# Altium schematic symbol library Library.SchLib: 691 symbols (part 11 of 11)
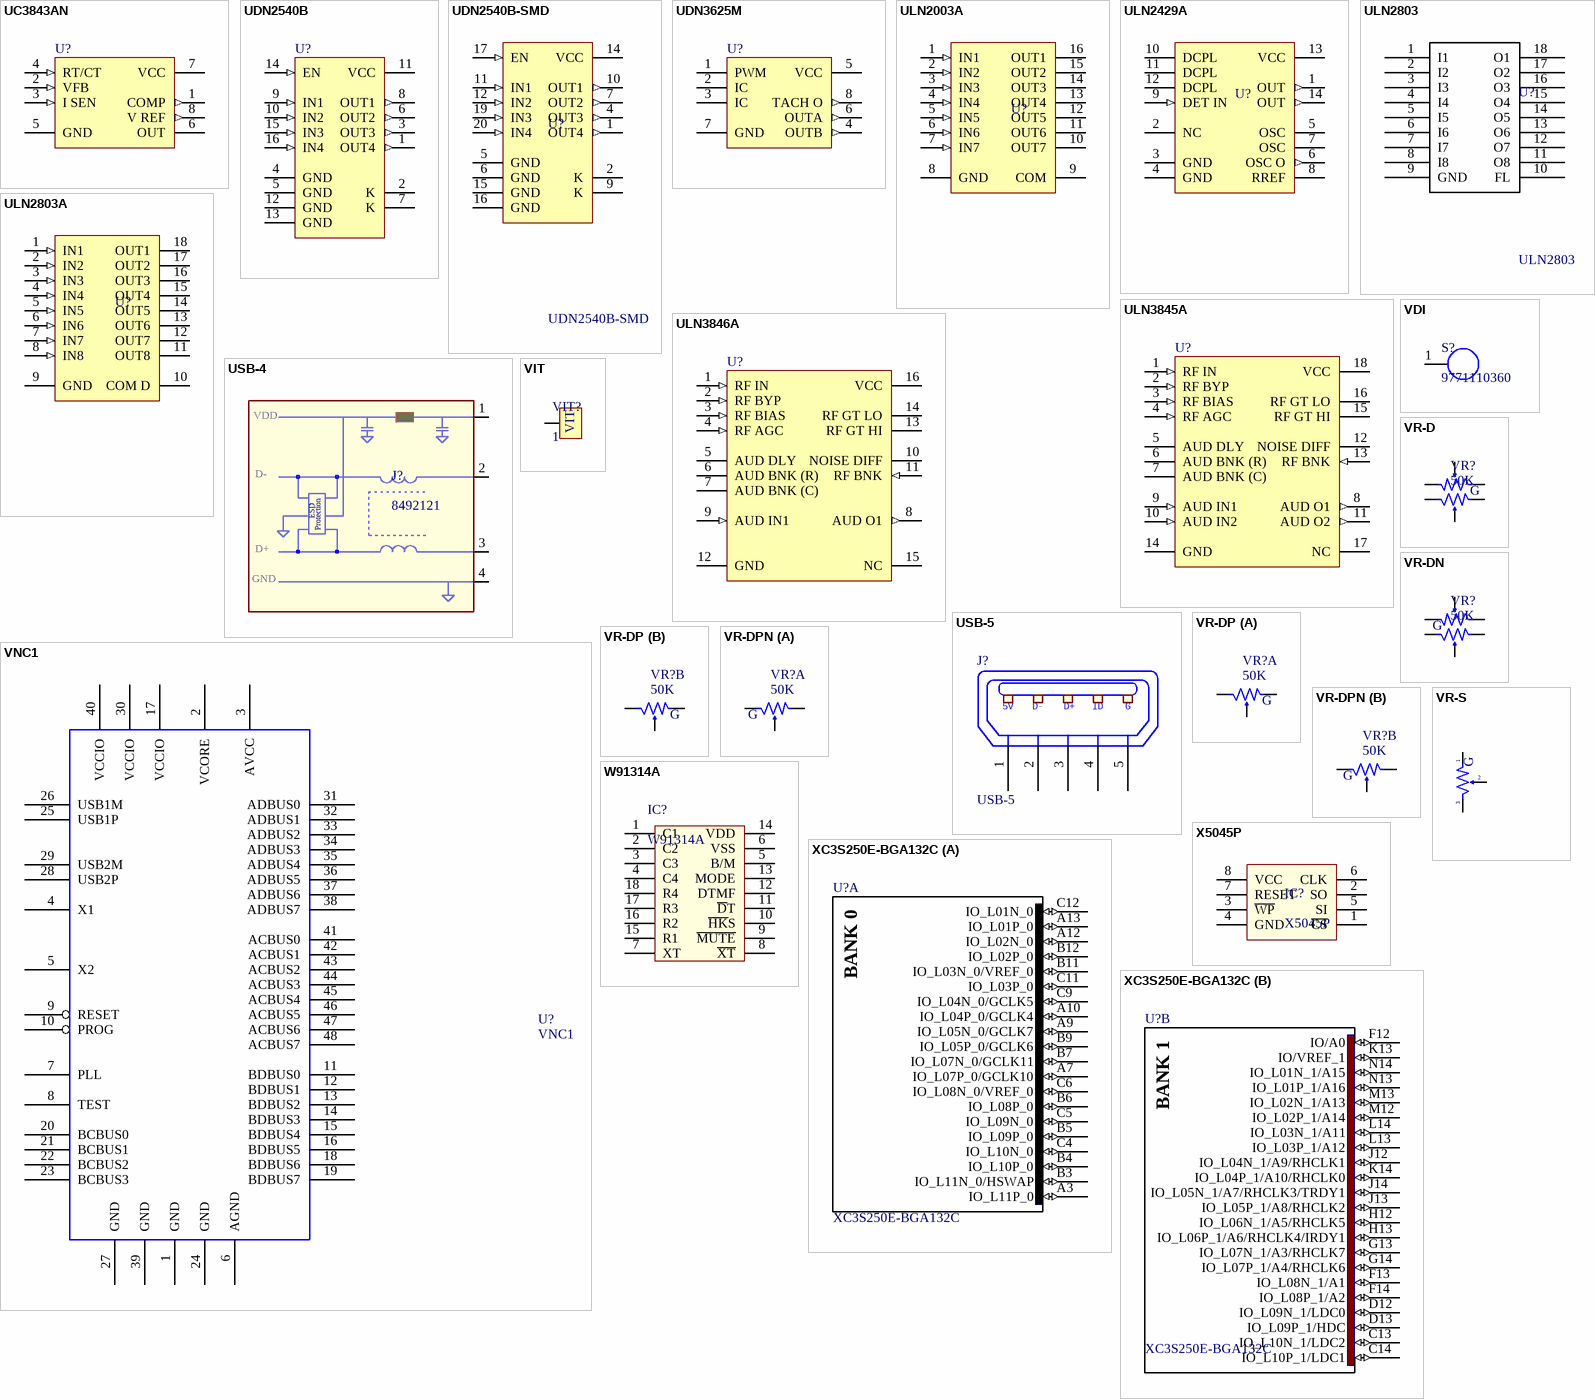
[diagram p56: symbols UC3843AN to XC3S250E-BGA132C]

## USB-5
designator J?
Manufacturer: FCI; Manufacturer Part Number: 10118193-0001LF; Connector Type: USB - micro B; Number of Contacts: 5; Gender: Receptacle; Specifications: USB 2.0; .Creator: MM; .Checked PCB: RF; Supplier 1: Digi-Key; RoHS: RoHS Compliant; Category: Connectors, Interconnects; Stock 1: 28642; Pricing 1: 1=0.46, 10=0.433, 25=0.3712, 50=0.3156, 100=0.3032, 250=0.27224, 500=0.25988 (USD); Packaging: Cut Tape (CT); Mounting Type: Surface Mount, Right Angle, Horizontal; Features: Shielded, Solder Retention; Ingress Protection: -; ComponentLink1URL: http://portal.fciconnect.com/Comergent//fci/drawing/10118193.pdf; ComponentLink1Description: http://portal.fciconnect.com/Comergent//fci/drawing/10118193.pdf; Supplier Part Number 1: 609-4616-1-ND; .Checked SCH: MM
footprint USB-M1
footprint USB-M2
footprint USB-M3
footprint USB-M4
footprint USB-M5
footprint USB-M6 (MOLEX 51387-0571)
footprint USB-M7
pins: 1 P1, 2 P2, 3 P3, 4 P4, 5 P5
text: 5V; D-; D+; ID; G

## VDI
designator S?, comment 9771110360
WA-SMSE SMD Steel Spacer with external Thread; Manufacturer: Wurth Elektronik; partNo: 9771110360; ComponentLink1Description: Manufacturer; ComponentLink1URL: http://www.we-online.de; Created by: Baojun Chen; Created Date: 19.Oct.2015; ComponentLink2Description: Datasheet; ComponentLink2URL: http://katalog.we-online.de/em/datasheet/9771110360.pdf
footprint VDI (SMD Steel Spacer with internal Thread)
footprint VDI1 (SMD Steel Spacer with internal Thread)
pins: 1

## VIT
designator VIT?, comment 1
Oc Vit
footprint VIT
pins: VIT1 1

## VNC1
designator U?
VINCULUM USB HOST CONTROLLER; Manufacturer Part Number: VNC1L-1A-REEL; Manufacturer: FTDI, Future Technology Devices International Ltd; Current - Supply: 25mA; Interface: SPI; Voltage - Supply: 3 V ~ 3.6 V; Controller Type: USB 2.0 Controller; Supplier 1: Digi-Key; Supplier Part Number 1: 768-1000-2-ND; Supplier Part Number: 768-1000-2-ND; RoHS: RoHS Compliant; Supplier: Digi-Key; Category: Integrated Circuits (ICs); Operating Temperature: 0°C ~ 70°C; Packaging: Tape & Reel (TR); Package / Case: 48-LQFP
footprint TQFP48
pins: 1 GND, 2 VCORE, 3 AVCC, 4 X1, 5 X2, 6 AGND, 7 PLL, 8 TEST, 9 RESET, 10 PROG, 11 BDBUS0, 12 BDBUS1, 13 BDBUS2, 14 BDBUS3, 15 BDBUS4, 16 BDBUS5, 17 VCCIO, 18 BDBUS6, 19 BDBUS7, 20 BCBUS0, 21 BCBUS1, 22 BCBUS2, 23 BCBUS3, 24 GND, 25 USB1P, 26 USB1M, 27 GND, 28 USB2P, 29 USB2M, 30 VCCIO, 31 ADBUS0, 32 ADBUS1, 33 ADBUS2, 34 ADBUS3, 35 ADBUS4, 36 ADBUS5, 37 ADBUS6, 38 ADBUS7, 39 GND, 40 VCCIO, 41 ACBUS0, 42 ACBUS1, 43 ACBUS2, 44 ACBUS3, 45 ACBUS4, 46 ACBUS5, 47 ACBUS6, 48 ACBUS7

## VR-D
designator VR?, comment 50K
Volume control Dual; Value: Volume Dual 50K
footprint VR-D1 (Volume control Dual)
footprint VR-D2
footprint VR-D3
footprint VR-D4
footprint VR-D5
footprint VR-D6
footprint VR-D7 (7*7mm, 10 position, 2.54mm, horizontal type, THT, Round  Arrow type, red actuator, real code, Tube)
pins: 1, 2, 3, 4, 5, 6
text: G

## VR-DN
designator VR?, comment 50K
Volume control Dual; Value: Volume Dual 50K
footprint VR-D1 (Volume control Dual)
footprint VR-D2
footprint VR-D3
footprint VR-D4
footprint VR-D5
footprint VR-D6
footprint VR-D7 (7*7mm, 10 position, 2.54mm, horizontal type, THT, Round  Arrow type, red actuator, real code, Tube)
pins: 1, 2, 3, 4, 5, 6
text: G

## VR-DP
designator VR?, comment 50K
Volume control Dual; Value: Volume Dual 50K
footprint VR-D1 (Volume control Dual)
footprint VR-D2
footprint VR-D3
footprint VR-D4
footprint VR-D5
footprint VR-D6
footprint VR-D7 (7*7mm, 10 position, 2.54mm, horizontal type, THT, Round  Arrow type, red actuator, real code, Tube)
part A pins: 1, 2, 3
part B pins: 4, 5, 6
part A text: G
part B text: G

## VR-DPN
designator VR?, comment 50K
Volume control Dual; Value: Volume Dual 50K
footprint VR-D1 (Volume control Dual)
footprint VR-D2
footprint VR-D3
footprint VR-D4
footprint VR-D5
footprint VR-D6
footprint VR-D7 (7*7mm, 10 position, 2.54mm, horizontal type, THT, Round  Arrow type, red actuator, real code, Tube)
part A pins: 1, 2, 3
part B pins: 4, 5, 6
part A text: G
part B text: G

## VR-S
designator VR?, comment 50K
Var Resistor; Value: Volume 50k
footprint VR-S4
footprint VR-S1
footprint VR-S2 (Resistor Variable)
footprint VR-S3 (Variable Resistor)
pins: 1, 2, 3
text: G

## W91314A
designator IC?
TONE/PULSE DIALER WITH  REDIAL FUNCTION; Creat by: VanDungEvn@Gmail.com
footprint DIP18 (DIP; 18 Leads; Row Spacing 7.62 mm; Pitch 2.54 mm)
pins: 1 C1, 2 C2, 3 C3, 4 C4, 5 B/M, 6 VSS, 7 XT, 8 ~{XT}, 9 ~{MUTE}, 10 ~{HK}S, 11 ~{D}T, 12 DTMF, 13 MODE, 14 VDD, 15 R1, 16 R2, 17 R3, 18 R4

## X5045P
designator IC?
4K SPI EEPROM
footprint DIP8
footprint SO8 (SOIC, 8-Leads, Body 4.9x3.9mm, Pitch 1.27mm, IPC High Density)
footprint MSOP8 (MSOP, 8-Leads, Body 3.00x3.00mm, Pitch 0.65mm, IPC High Density)
pins: 1 ~{CS}, 2 SO, 3 ~{WP}, 4 GND, 5 SI, 6 CLK, 7 RESET, 8 VCC

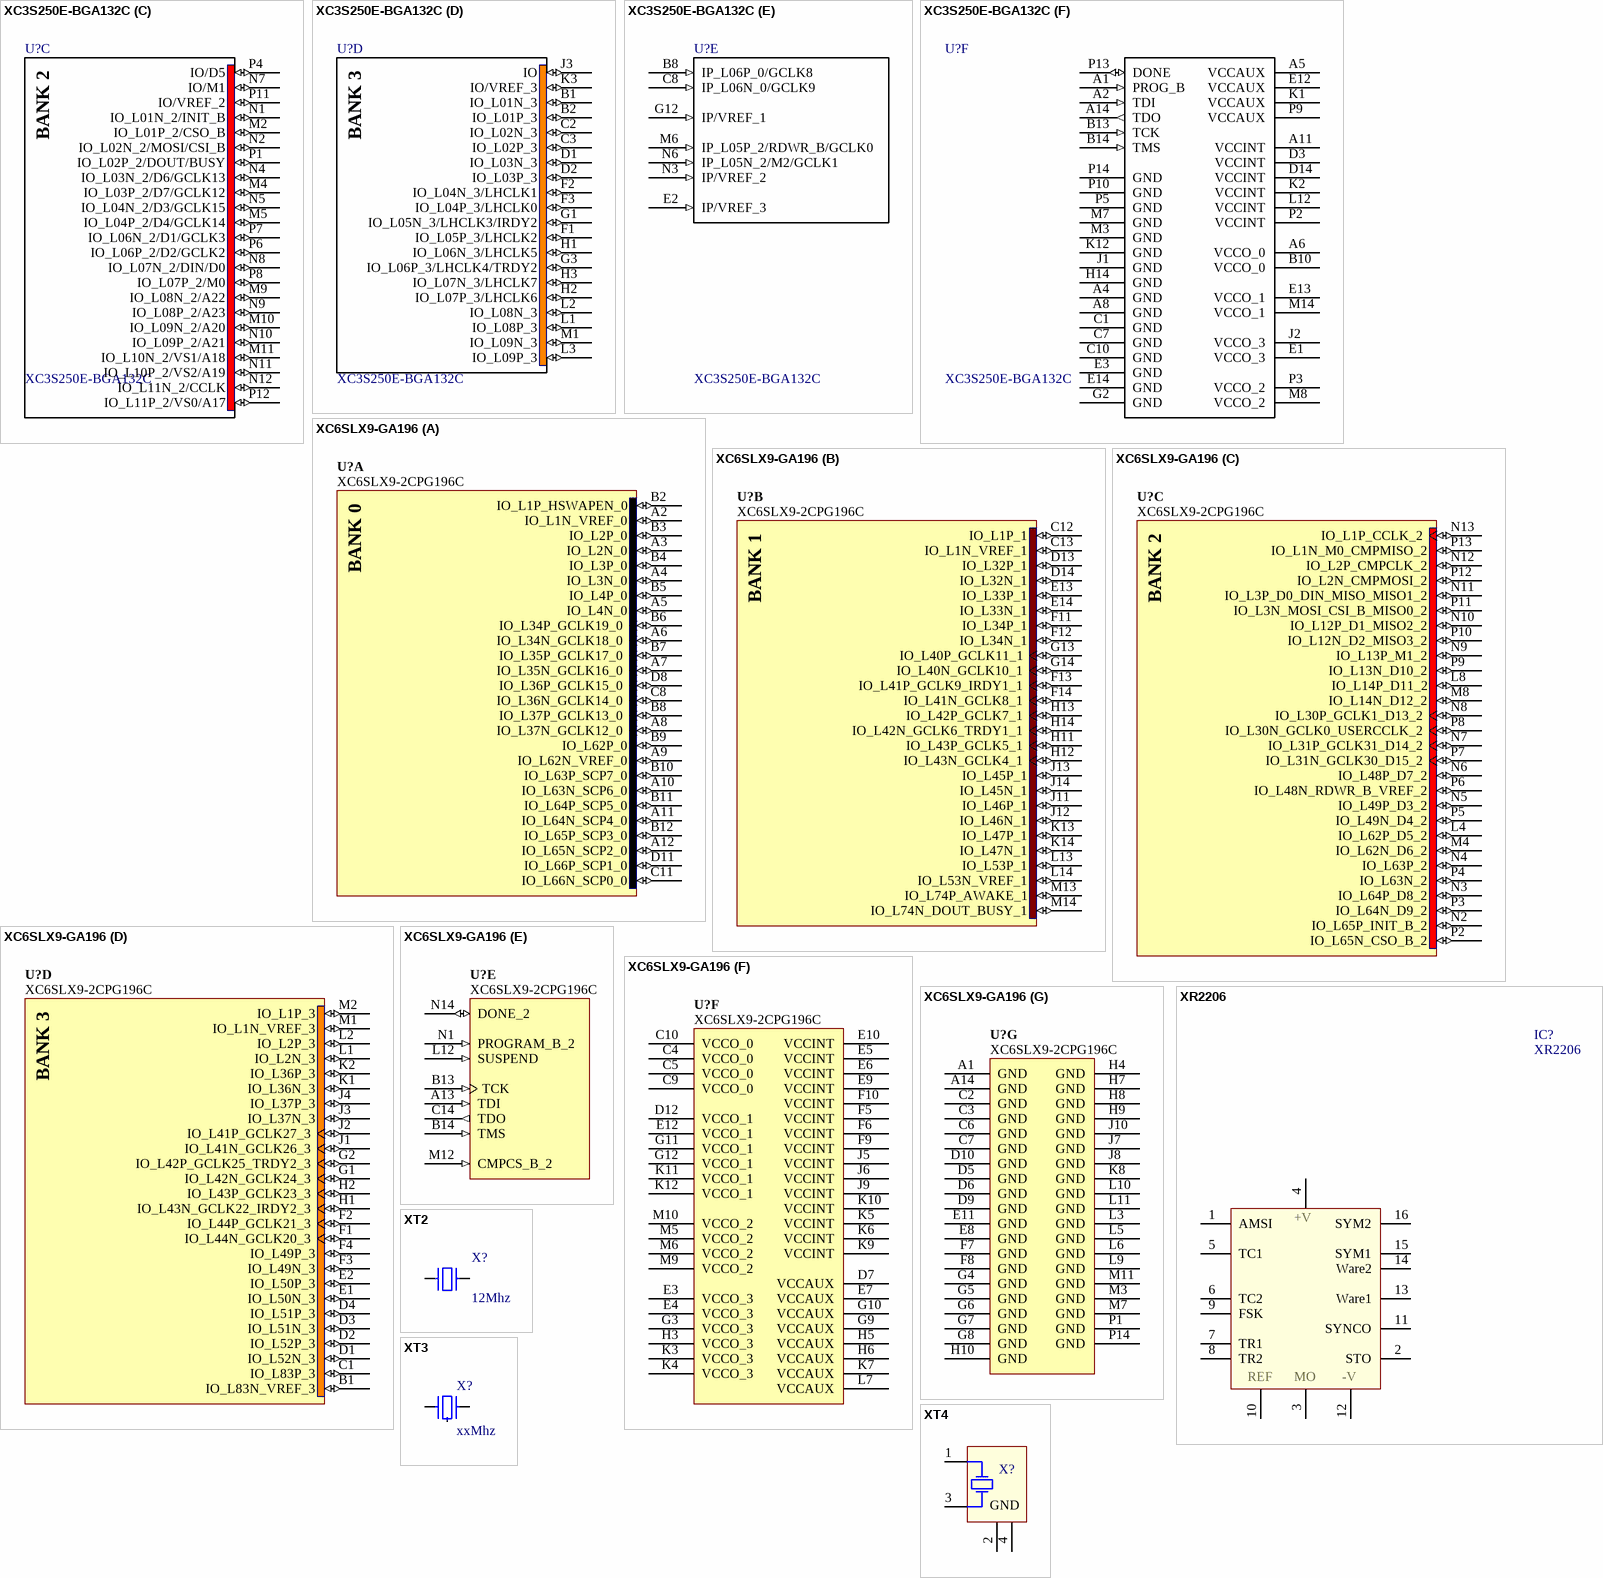
[diagram p45: symbols XC3S250E-BGA132C to XT4]

## XC3S250E-BGA132C
designator U?
Spartan-3E 1.2V FPGA, 92 User I/Os, 132-Ball Chip-Scale BGA, Standard Performance, Commercial Grade, Pb-Free; FirstPublished: 6-Jun-2005; LatestRevisionDate: 30-Oct-2009; LatestRevisionNote: Updated to datasheet version 3.8 Aug-2009.; DatasheetVersion: ver3.8, Aug-2009; PackageVersion: ver1.3, Jun-2008; PackageReference: CPG132; Publisher: Altium Limited; PackageDescription: 132-Ball Chip Scale Ball Grid Array 0.5 mm Pitch (CPG132) - Pb-Free; Supplier 1: Digi-Key; Supplier Part Number 1: 122-1518-ND; ComponentLink1Description: Spartan-3E Datasheet; ComponentLink1URL: http://www.xilinx.com/support/documentation/data_sheets/ds312.pdf; ComponentLink2Description: CPG132 Package Drawing; ComponentLink2URL: http://www.xilinx.com/support/documentation/package_specs/cp132.pdf; ComponentLink3Description: Spartan-3E Documents; ComponentLink3URL: http://www.xilinx.com/support/documentation/spartan-3e.htm; ComponentLink4Description: Xilinx.com Home; ComponentLink4URL: http://www.xilinx.com
footprint CPG132 (BGA, 132-Leads, Body 8x8mm, Pitch 0.5mm)
part A pins: A3 IO_L11P_0 (io), A7 IO_L07P_0/GCLK10 (io), A9 IO_L05N_0/GCLK7 (io), A10 IO_L04P_0/GCLK4 (io), A12 IO_L02N_0 (io), A13 IO_L01P_0 (io), B3 IO_L11N_0/HSWAP (io), B4 IO_L10P_0 (io), B5 IO_L09P_0 (io), B6 IO_L08P_0 (io), B7 IO_L07N_0/GCLK11 (io), B9 IO_L05P_0/GCLK6 (io), B11 IO_L03N_0/VREF_0 (io), B12 IO_L02P_0 (io), C4 IO_L10N_0 (io), C5 IO_L09N_0 (io), C6 IO_L08N_0/VREF_0 (io), C9 IO_L04N_0/GCLK5 (io), C11 IO_L03P_0 (io), C12 IO_L01N_0 (io)
part B pins: C13 IO_L10N_1/LDC2 (io), C14 IO_L10P_1/LDC1 (io), D12 IO_L09N_1/LDC0 (io), D13 IO_L09P_1/HDC (io), F12 IO/A0 (io), F13 IO_L08N_1/A1 (io), F14 IO_L08P_1/A2 (io), G13 IO_L07N_1/A3/RHCLK7 (io), G14 IO_L07P_1/A4/RHCLK6 (io), H12 IO_L06N_1/A5/RHCLK5 (io), H13 IO_L06P_1/A6/RHCLK4/IRDY1 (io), J12 IO_L04N_1/A9/RHCLK1 (io), J13 IO_L05P_1/A8/RHCLK2 (io), J14 IO_L05N_1/A7/RHCLK3/TRDY1 (io), K13 IO/VREF_1 (io), K14 IO_L04P_1/A10/RHCLK0 (io), L13 IO_L03P_1/A12 (io), L14 IO_L03N_1/A11 (io), M12 IO_L02P_1/A14 (io), M13 IO_L02N_1/A13 (io), N13 IO_L01P_1/A16 (io), N14 IO_L01N_1/A15 (io)
part C pins: M2 IO_L01P_2/CSO_B (io), M4 IO_L03P_2/D7/GCLK12 (io), M5 IO_L04P_2/D4/GCLK14 (io), M9 IO_L08N_2/A22 (io), M10 IO_L09N_2/A20 (io), M11 IO_L10N_2/VS1/A18 (io), N1 IO_L01N_2/INIT_B (io), N2 IO_L02N_2/MOSI/CSI_B (io), N4 IO_L03N_2/D6/GCLK13 (io), N5 IO_L04N_2/D3/GCLK15 (io), N7 IO/M1 (io), N8 IO_L07N_2/DIN/D0 (io), N9 IO_L08P_2/A23 (io), N10 IO_L09P_2/A21 (io), N11 IO_L10P_2/VS2/A19 (io), N12 IO_L11N_2/CCLK (io), P1 IO_L02P_2/DOUT/BUSY (io), P4 IO/D5 (io), P6 IO_L06P_2/D2/GCLK2 (io), P7 IO_L06N_2/D1/GCLK3 (io), P8 IO_L07P_2/M0 (io), P11 IO/VREF_2 (io), P12 IO_L11P_2/VS0/A17 (io)
part D pins: B1 IO_L01N_3 (io), B2 IO_L01P_3 (io), C2 IO_L02N_3 (io), C3 IO_L02P_3 (io), D1 IO_L03N_3 (io), D2 IO_L03P_3 (io), F1 IO_L05P_3/LHCLK2 (io), F2 IO_L04N_3/LHCLK1 (io), F3 IO_L04P_3/LHCLK0 (io), G1 IO_L05N_3/LHCLK3/IRDY2 (io), G3 IO_L06P_3/LHCLK4/TRDY2 (io), H1 IO_L06N_3/LHCLK5 (io), H2 IO_L07P_3/LHCLK6 (io), H3 IO_L07N_3/LHCLK7 (io), J3 IO (io), K3 IO/VREF_3 (io), L1 IO_L08P_3 (io), L2 IO_L08N_3 (io), L3 IO_L09P_3 (io), M1 IO_L09N_3 (io)
part E pins: B8 IP_L06P_0/GCLK8 (in), C8 IP_L06N_0/GCLK9 (in), E2 IP/VREF_3 (in), G12 IP/VREF_1 (in), M6 IP_L05P_2/RDWR_B/GCLK0 (in), N3 IP/VREF_2 (in), N6 IP_L05N_2/M2/GCLK1 (in)
part F pins: A1 PROG_B (in), A2 TDI (in), A4 GND (power), A5 VCCAUX (power), A6 VCCO_0 (power), A8 GND (power), A11 VCCINT (power), A14 TDO (out), B10 VCCO_0 (power), B13 TCK (in), B14 TMS (in), C1 GND (power), C7 GND (power), C10 GND (power), D3 VCCINT (power), D14 VCCINT (power), E1 VCCO_3 (power), E3 GND (power), E12 VCCAUX (power), E13 VCCO_1 (power), E14 GND (power), G2 GND (power), H14 GND (power), J1 GND (power), J2 VCCO_3 (power), K1 VCCAUX (power), K2 VCCINT (power), K12 GND (power), L12 VCCINT (power), M3 GND (power), M7 GND (power), M8 VCCO_2 (power), M14 VCCO_1 (power), P2 VCCINT (power), P3 VCCO_2 (power), P5 GND (power), P9 VCCAUX (power), P10 GND (power), P13 DONE (io), P14 GND (power)
part A text: BANK 0
part B text: BANK 1
part C text: BANK 2
part D text: BANK 3

## XC6SLX9-GA196
designator U?, comment XC6SLX9-2CPG196C
Spartan-6 LX 1.2V FPGA, 106 User I/Os, 196-Ball Chip-Scale BGA (0.5mm Pitch), Speed Grade 2, Commercial Grade, Pb-Free; Code_JEDEC: MO-275; PackageReference: CPG196; PackageDescription: 196-Ball Chip Scale Ball Grid Array 0.5 mm Pitch (CPG196) - Pb-Free; DatasheetVersion: ver1.6, Nov-2010; PackageVersion: ver1.0, Dec-2009
footprint BGA196 (BGA, 196-Leads, Body 8x8mm, Pitch 0.5mm)
part A pins: A2 IO_L1N_VREF_0 (io), A3 IO_L2N_0 (io), A4 IO_L3N_0 (io), A5 IO_L4N_0 (io), A6 IO_L34N_GCLK18_0 (io), A7 IO_L35N_GCLK16_0 (io), A8 IO_L37N_GCLK12_0 (io), A9 IO_L62N_VREF_0 (io), A10 IO_L63N_SCP6_0 (io), A11 IO_L64N_SCP4_0 (io), A12 IO_L65N_SCP2_0 (io), B2 IO_L1P_HSWAPEN_0 (io), B3 IO_L2P_0 (io), B4 IO_L3P_0 (io), B5 IO_L4P_0 (io), B6 IO_L34P_GCLK19_0 (io), B7 IO_L35P_GCLK17_0 (io), B8 IO_L37P_GCLK13_0 (io), B9 IO_L62P_0 (io), B10 IO_L63P_SCP7_0 (io), B11 IO_L64P_SCP5_0 (io), B12 IO_L65P_SCP3_0 (io), C8 IO_L36N_GCLK14_0 (io), C11 IO_L66N_SCP0_0 (io), D8 IO_L36P_GCLK15_0 (io), D11 IO_L66P_SCP1_0 (io)
part B pins: C12 IO_L1P_1 (io), C13 IO_L1N_VREF_1 (io), D13 IO_L32P_1 (io), D14 IO_L32N_1 (io), E13 IO_L33P_1 (io), E14 IO_L33N_1 (io), F11 IO_L34P_1 (io), F12 IO_L34N_1 (io), F13 IO_L41P_GCLK9_IRDY1_1 (io), F14 IO_L41N_GCLK8_1 (io), G13 IO_L40P_GCLK11_1 (io), G14 IO_L40N_GCLK10_1 (io), H11 IO_L43P_GCLK5_1 (io), H12 IO_L43N_GCLK4_1 (io), H13 IO_L42P_GCLK7_1 (io), H14 IO_L42N_GCLK6_TRDY1_1 (io), J11 IO_L46P_1 (io), J12 IO_L46N_1 (io), J13 IO_L45P_1 (io), J14 IO_L45N_1 (io), K13 IO_L47P_1 (io), K14 IO_L47N_1 (io), L13 IO_L53P_1 (io), L14 IO_L53N_VREF_1 (io), M13 IO_L74P_AWAKE_1 (io), M14 IO_L74N_DOUT_BUSY_1 (io)
part C pins: L4 IO_L62P_D5_2 (io), L8 IO_L14P_D11_2 (io), M4 IO_L62N_D6_2 (io), M8 IO_L14N_D12_2 (io), N2 IO_L65P_INIT_B_2 (io), N3 IO_L64P_D8_2 (io), N4 IO_L63P_2 (io), N5 IO_L49P_D3_2 (io), N6 IO_L48P_D7_2 (io), N7 IO_L31P_GCLK31_D14_2 (io), N8 IO_L30P_GCLK1_D13_2 (io), N9 IO_L13P_M1_2 (io), N10 IO_L12P_D1_MISO2_2 (io), N11 IO_L3P_D0_DIN_MISO_MISO1_2 (io), N12 IO_L2P_CMPCLK_2 (io), N13 IO_L1P_CCLK_2 (io), P2 IO_L65N_CSO_B_2 (io), P3 IO_L64N_D9_2 (io), P4 IO_L63N_2 (io), P5 IO_L49N_D4_2 (io), P6 IO_L48N_RDWR_B_VREF_2 (io), P7 IO_L31N_GCLK30_D15_2 (io), P8 IO_L30N_GCLK0_USERCCLK_2 (io), P9 IO_L13N_D10_2 (io), P10 IO_L12N_D2_MISO3_2 (io), P11 IO_L3N_MOSI_CSI_B_MISO0_2 (io), P12 IO_L2N_CMPMOSI_2 (io), P13 IO_L1N_M0_CMPMISO_2 (io)
part D pins: B1 IO_L83N_VREF_3 (io), C1 IO_L83P_3 (io), D1 IO_L52N_3 (io), D2 IO_L52P_3 (io), D3 IO_L51N_3 (io), D4 IO_L51P_3 (io), E1 IO_L50N_3 (io), E2 IO_L50P_3 (io), F1 IO_L44N_GCLK20_3 (io), F2 IO_L44P_GCLK21_3 (io), F3 IO_L49N_3 (io), F4 IO_L49P_3 (io), G1 IO_L42N_GCLK24_3 (io), G2 IO_L42P_GCLK25_TRDY2_3 (io), H1 IO_L43N_GCLK22_IRDY2_3 (io), H2 IO_L43P_GCLK23_3 (io), J1 IO_L41N_GCLK26_3 (io), J2 IO_L41P_GCLK27_3 (io), J3 IO_L37N_3 (io), J4 IO_L37P_3 (io), K1 IO_L36N_3 (io), K2 IO_L36P_3 (io), L1 IO_L2N_3 (io), L2 IO_L2P_3 (io), M1 IO_L1N_VREF_3 (io), M2 IO_L1P_3 (io)
part E pins: A13 TDI (in), B13 TCK (in), B14 TMS (in), C14 TDO (out), L12 SUSPEND (in), M12 CMPCS_B_2 (in), N1 PROGRAM_B_2 (in), N14 DONE_2 (io)
part F pins: C4 VCCO_0 (power), C5 VCCO_0 (power), C9 VCCO_0 (power), C10 VCCO_0 (power), D7 VCCAUX (power), D12 VCCO_1 (power), E3 VCCO_3 (power), E4 VCCO_3 (power), E5 VCCINT (power), E6 VCCINT (power), E7 VCCAUX (power), E9 VCCINT (power), E10 VCCINT (power), E12 VCCO_1 (power), F5 VCCINT (power), F6 VCCINT (power), F9 VCCINT (power), F10 VCCINT (power), G3 VCCO_3 (power), G9 VCCAUX (power), G10 VCCAUX (power), G11 VCCO_1 (power), G12 VCCO_1 (power), H3 VCCO_3 (power), H5 VCCAUX (power), H6 VCCAUX (power), J5 VCCINT (power), J6 VCCINT (power), J9 VCCINT (power), K3 VCCO_3 (power), K4 VCCO_3 (power), K5 VCCINT (power), K6 VCCINT (power), K7 VCCAUX (power), K9 VCCINT (power), K10 VCCINT (power), K11 VCCO_1 (power), K12 VCCO_1 (power), L7 VCCAUX (power), M5 VCCO_2 (power), M6 VCCO_2 (power), M9 VCCO_2 (power), M10 VCCO_2 (power)
part G pins: A1 GND (power), A14 GND (power), C2 GND (power), C3 GND (power), C6 GND (power), C7 GND (power), D5 GND (power), D6 GND (power), D9 GND (power), D10 GND (power), E8 GND (power), E11 GND (power), F7 GND (power), F8 GND (power), G4 GND (power), G5 GND (power), G6 GND (power), G7 GND (power), G8 GND (power), H4 GND (power), H7 GND (power), H8 GND (power), H9 GND (power), H10 GND (power), J7 GND (power), J8 GND (power), J10 GND (power), K8 GND (power), L3 GND (power), L5 GND (power), L6 GND (power), L9 GND (power), L10 GND (power), L11 GND (power), M3 GND (power), M7 GND (power), M11 GND (power), P1 GND (power), P14 GND (power)
part A text: BANK 0
part B text: BANK 1
part C text: BANK 2
part D text: BANK 3

## XR2206
designator IC?
OSC Sine - Square - Triangle; Value: DIP 16; Value: XR2206
footprint DIP16
footprint SO16L (SOIC, 16-Leads, Body 10.30x7.50mm, Pitch 1.27mm, IPC Medium Density)
pins: 1 AMSI, 2 STO, 3 MO, 4 +V, 5 TC1, 6 TC2, 7 TR1, 8 TR2, 9 FSK, 10 REF, 11 SYNCO, 12 -V, 13 Ware1, 14 Ware2, 15 SYM1, 16 SYM2

## XT2
designator X?, comment 12Mhz
Crystal, 32.768 KHz, -40 to 85 degC, 3.2 x 1.5 x 0.9 mm SMD; Value: 4Mhz
footprint XT2 (Footpin for Crystal 2 pin)
footprint XT2N (Crystal 2pin, high 200 mil)
footprint XT2-L (Footpin for Crystal 2 pin)
footprint XT32k
footprint XT2-SMD
footprint XTAL-RU49/4
footprint XT2-32.768KHz-2_V (Hand Drawn, 2-Leads, Body 3.2x1.5mm, Pitch 2.5mm)
pins: 1, 2

## XT3
designator X?, comment xxMhz
Crystal For all Crystal 2pin.; Value: 4Mhz
footprint XT3
footprint BXR315A (Xtal for RF)
pins: 1, 2, 3

## XT4
designator X?
Crystal, 16 MHz, -30 to 85 degC, 3.2 x 2.5 x 0.9 mm SMD; Value: 4Mhz
footprint XT4-SMD
footprint XT4
footprint XT4-16.000MHz-4_V (Hand Drawn, 4-Leads, Body 3.2x2.5 mm)
pins: 1 XTAL, 2 GND (power), 3 XTAL, 4 GND (power)

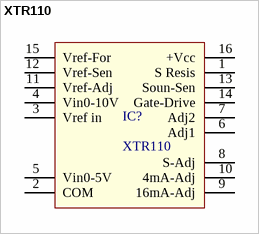
[diagram p46: symbol XTR110]

## XTR110
designator IC?
PRECISION VOLTAGE-TO-CURREN  CONVERTER/TRANSMITTER; Designed by: VanDungEvn; Value: XTR110
footprint DIP16
footprint SO16L (SOIC, 16-Leads, Body 10.30x7.50mm, Pitch 1.27mm, IPC Medium Density)
pins: 1 S Resis, 2 COM, 3 Vref in, 4 Vin0-10V, 5 Vin0-5V, 6 Adj1, 7 Adj2, 8 S-Adj, 9 16mA-Adj, 10 4mA-Adj, 11 Vref-Adj, 12 Vref-Sen, 13 Soun-Sen, 14 Gate-Drive, 15 Vref-For, 16 +Vcc